# EAGLE library part 52610-0833 (library con-molex)
FPC Connector
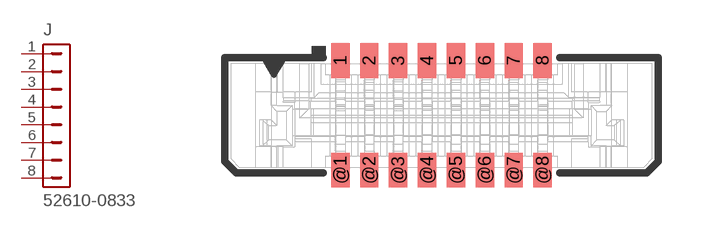
[diagram p148: symbol with the pads of 52610-0833; footprint 52610-0833]

Designator prefix J

## 52610-0833  [52610-0833]
1  1  pas
2  2  pas
3  3  pas
4  4  pas
5  5  pas
6  6  pas
7  7  pas
8  8  pas

## Footprint 52610-0833 (pad centres in mm)
8 Position FPC Connector Vertical, 1 Sided 0.039" (1.00mm) Surface Mount
smd 0.635 x 1.2: 1 -3.5,1.9; 2 -2.5,1.9; 3 -1.5,1.9; 4 -0.5,1.9; 5 0.5,1.9; 6 1.5,1.9; 7 2.5,1.9; 8 3.5,1.9; @1 -3.5,-1.9; @2 -2.5,-1.9; @3 -1.5,-1.9; @4 -0.5,-1.9; @5 0.5,-1.9; @6 1.5,-1.9; @7 2.5,-1.9; @8 3.5,-1.9